# EAGLE library part CONNEC_1X06 (library RobotCampus)
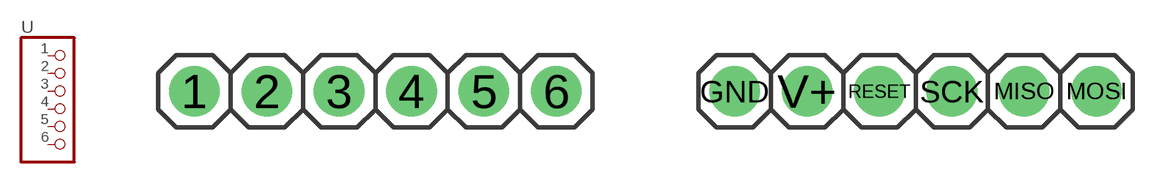
[diagram p1: symbol with the pads of CONNEC_1X06; footprints CONNEC_1X06, CONNEC_AVRISP]

Designator prefix -

## CONNEC_1X06  [CONNEC_1X06]
1  1  pas
2  2  pas
3  3  pas
4  4  pas
5  5  pas
6  6  pas

## CONNEC_1X06_AVRISP  [CONNEC_AVRISP]
GND  1  pas
MISO  5  pas
MOSI  6  pas
RESET  3  pas
SCK  4  pas
V+  2  pas

## Footprint CONNEC_1X06 (pad centres in mm)
drill 1 pad 1.778: 1 -1.27,1.27; 2 1.27,1.27; 3 3.81,1.27; 4 6.35,1.27; 5 8.89,1.27; 6 11.43,1.27

## Footprint CONNEC_AVRISP (pad centres in mm)
drill 1 pad 1.778: GND -6.35,0; MISO 3.81,0; MOSI 6.35,0; RESET -1.27,0; SCK 1.27,0; V+ -3.81,0